# EAGLE library part FT232R (library ftdichip)
FTDI - FT232R USB-UART Wraper The FT232R is the latest device to be added to FTDI?s range of USB UART interface Integrated Circuit Devices. The FT232R is a USB to serial UART interface with optional clock generator output, and the new FTDIChip-ID? security dongle feature. In addition, asynchronous and synchronous bit bang interface modes are available. USB to serial designs using the FT232R have been further simplified by fully integrating the external EEPROM, clock circuit and USB resistors onto the device. The FT232R adds two new functions compared with its predecessors, effectively making it a "3-in-1" chip for some application areas. The internally generated clock (6MHz, 12MHz, 24MHz, and 48MHz) can be brought out of the device and used to drive a microcontroller or external logic. A unique number (the FTDIChip-ID?) is burnt into the device during manufacture and is readable over USB, thus forming the basis of a security dongle which can be used to protect customer application software from being copied. The FT232R is available in Pb-free (RoHS compliant) compact 28-Lead SSOP and QFN-32 packages. To find out more about the FT232R, goto http://ftdichip.com/Products/FT232R.htm.
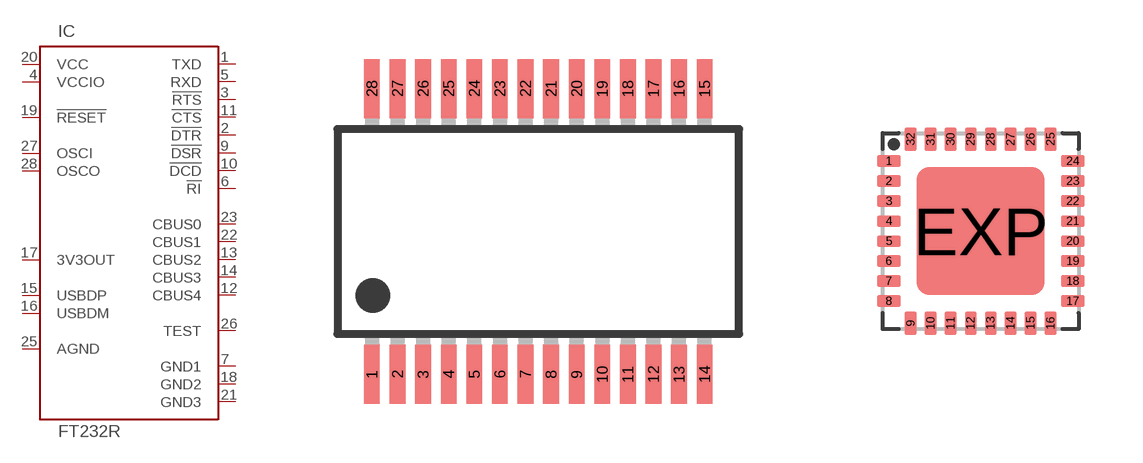
[diagram p4: symbol with the pads of SSOP-28; footprints SSOP-28, QFN-32]

Designator prefix IC

## FT232RL  [SSOP-28]
1  TXD  in
2  !DTR  in
3  !RTS  in
4  VCCIO  in
5  RXD  in
6  !RI  in
7  GND1  in
9  !DSR  in
10  !DCD  in
11  !CTS  in
12  CBUS4  in
13  CBUS2  in
14  CBUS3  in
15  USBDP  in
16  USBDM  in
17  3V3OUT  in
18  GND2  in
19  !RESET  in
20  VCC  in
21  GND3  in
22  CBUS1  in
23  CBUS0  in
25  AGND  in
26  TEST  in
27  OSCI  in
28  OSCO  in

## FT232RQ  [QFN-32]
1  VCCIO  in
2  RXD  in
3  !RI  in
4  GND1  in
6  !DSR  in
7  !DCD  in
8  !CTS  in
9  CBUS4  in
10  CBUS2  in
11  CBUS3  in
14  USBDP  in
15  USBDM  in
16  3V3OUT  in
17  GND2  in
18  !RESET  in
19  VCC  in
20  GND3  in
21  CBUS1  in
22  CBUS0  in
24  AGND  in
26  TEST  in
27  OSCI  in
28  OSCO  in
30  TXD  in
31  !DTR  in
32  !RTS  in

## Footprint SSOP-28 (pad centres in mm)
Package SSOP-28
smd 0.4 x 1.5: 1 -4.225,-3.625; 2 -3.575,-3.625; 3 -2.925,-3.625; 4 -2.275,-3.625; 5 -1.625,-3.625; 6 -0.975,-3.625; 7 -0.325,-3.625; 8 0.325,-3.625; 9 0.975,-3.625; 10 1.625,-3.625; 11 2.275,-3.625; 12 2.925,-3.625; 13 3.575,-3.625; 14 4.225,-3.625; 15 4.225,3.625; 16 3.575,3.625; 17 2.925,3.625; 18 2.275,3.625; 19 1.625,3.625; 20 0.975,3.625; 21 0.325,3.625; 22 -0.325,3.625; 23 -0.975,3.625; 24 -1.625,3.625; 25 -2.275,3.625; 26 -2.925,3.625; 27 -3.575,3.625; 28 -4.225,3.625

## Footprint QFN-32 (pad centres in mm)
Package QFN-32
smd 0.6 x 0.3: 1 -2.3,1.75; 2 -2.3,1.25; 3 -2.3,0.75; 4 -2.3,0.25; 5 -2.3,-0.25; 6 -2.3,-0.75; 7 -2.3,-1.25; 8 -2.3,-1.75; 17 2.3,-1.75; 18 2.3,-1.25; 19 2.3,-0.75; 20 2.3,-0.25; 21 2.3,0.25; 22 2.3,0.75; 23 2.3,1.25; 24 2.3,1.75
smd 0.3 x 0.6: 9 -1.75,-2.3; 10 -1.25,-2.3; 11 -0.75,-2.3; 12 -0.25,-2.3; 13 0.25,-2.3; 14 0.75,-2.3; 15 1.25,-2.3; 16 1.75,-2.3; 25 1.75,2.3; 26 1.25,2.3; 27 0.75,2.3; 28 0.25,2.3; 29 -0.25,2.3; 30 -0.75,2.3; 31 -1.25,2.3; 32 -1.75,2.3
smd 3.2 x 3.2: EXP 0,0